# Altium footprint library Display_7Segment.PcbLib: 53 footprints (part 2 of 4)
Each footprint in its own frame and in the unit in brackets; x right, y up, seen from the top. Pads: shape width x height; smd on the part's side, far side on the other; paste and mask are expansions set on the pad; w line width, h text height; cw(c..) or ccw(c..) is an arc to the next point about the centre after c.
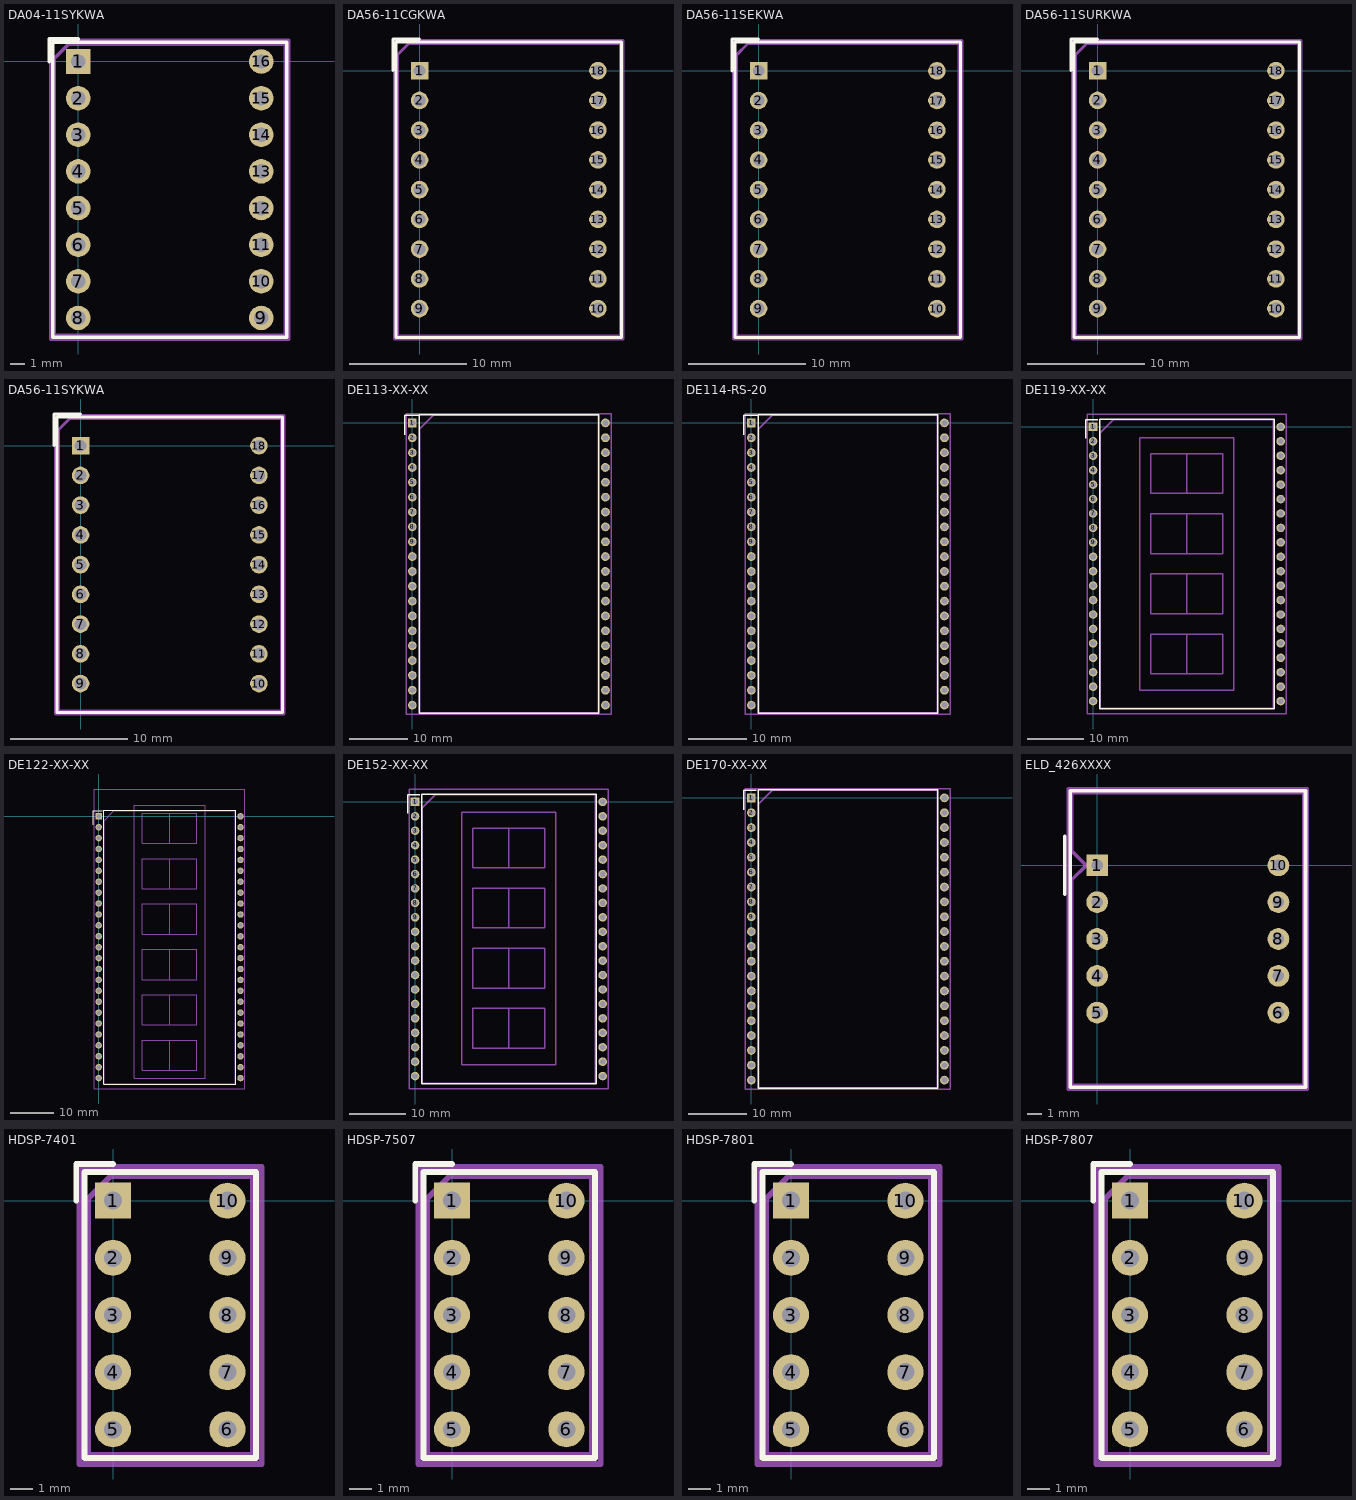
[diagram p1: the footprints below, top view; thin cyan lines are the x and y axes]

## DA04-11SYKWA [mm]
pads (16):
  rect 1.7x1.7 hole 1: 1(0,0)
  round 1.7 hole 1: 2(0,-2.54) 3(0,-5.08) 4(0,-7.62) 5(0,-10.16) 6(0,-12.7) 7(0,-15.24) 8(0,-17.78) 9(12.7,-17.78) 10(12.7,-15.24) 11(12.7,-12.7) 12(12.7,-10.16) 13(12.7,-7.62) 14(12.7,-5.08) 15(12.7,-2.54) 16(12.7,0)
F.SilkS:
  lines w0.254: -2,0 -2,1.56 0,1.56 ; -1.77,-19.11 14.47,-19.11 14.47,1.33 -1.77,1.33 -1.77,-19.11
Top Assembly:
  lines w0.254: -1.65,-18.99 14.35,-18.99 14.35,1.21 -0.65,1.21 -1.65,0.21 -1.65,-18.99
  text "'.Designator'" at 2.953,-9.84 h1
Top Courtyard:
  lines w0.254: -1.9,-19.24 14.6,-19.24 14.6,1.46 -1.9,1.46 -1.9,-19.24
Top Designator:
  text ".Designator" at -1.318,-9.348 h1.52

## DA56-11CGKWA [mm]
pads (18):
  rect 1.5x1.5 hole 1: 1(0,0)
  round 1.5 hole 1: 2(0,-2.54) 3(0,-5.08) 4(0,-7.62) 5(0,-10.16) 6(0,-12.7) 7(0,-15.24) 8(0,-17.78) 9(0,-20.32) 10(15.24,-20.32) 11(15.24,-17.78) 12(15.24,-15.24) 13(15.24,-12.7) 14(15.24,-10.16) 15(15.24,-7.62) 16(15.24,-5.08) 17(15.24,-2.54) 18(15.24,0)
F.SilkS:
  lines w0.254: -2.28,0 -2.28,2.71 0,2.71 ; -2.025,-22.79 17.265,-22.79 17.265,2.46 -2.025,2.46 -2.025,-22.79
Top Assembly:
  lines w0.254: -1.905,-22.66 17.145,-22.66 17.145,2.34 -0.905,2.34 -1.905,1.34 -1.905,-22.66
  text "'.Designator'" at 3.953,-10.84 h1
Top Courtyard:
  lines w0.254: -2.16,-22.92 17.39,-22.92 17.39,2.59 -2.16,2.59 -2.16,-22.92
Top Designator:
  text ".Designator" at -0.063,-10.613 h1.52

## DA56-11SEKWA [mm]
pads (18):
  rect 1.5x1.5 hole 1: 1(0,0)
  round 1.5 hole 1: 2(0,-2.54) 3(0,-5.08) 4(0,-7.62) 5(0,-10.16) 6(0,-12.7) 7(0,-15.24) 8(0,-17.78) 9(0,-20.32) 10(15.24,-20.32) 11(15.24,-17.78) 12(15.24,-15.24) 13(15.24,-12.7) 14(15.24,-10.16) 15(15.24,-7.62) 16(15.24,-5.08) 17(15.24,-2.54) 18(15.24,0)
F.SilkS:
  lines w0.254: -2.28,0 -2.28,2.71 ; -2.28,2.72 0,2.72 ; -2.025,-22.79 17.265,-22.79 17.265,2.46 -2.025,2.46 -2.025,-22.79
Top Assembly:
  lines w0.254: -1.905,-22.66 17.145,-22.66 17.145,2.34 -0.905,2.34 -1.905,1.34 -1.905,-22.66
  text "'.Designator'" at 3.953,-10.84 h1
Top Courtyard:
  lines w0.254: -2.16,-22.92 17.39,-22.92 17.39,2.59 -2.16,2.59 -2.16,-22.92
Top Designator:
  text ".Designator" at -0.063,-10.608 h1.52

## DA56-11SURKWA [mm]
pads (18):
  rect 1.5x1.5 hole 1: 1(0,0)
  round 1.5 hole 1: 2(0,-2.54) 3(0,-5.08) 4(0,-7.62) 5(0,-10.16) 6(0,-12.7) 7(0,-15.24) 8(0,-17.78) 9(0,-20.32) 10(15.24,-20.32) 11(15.24,-17.78) 12(15.24,-15.24) 13(15.24,-12.7) 14(15.24,-10.16) 15(15.24,-7.62) 16(15.24,-5.08) 17(15.24,-2.54) 18(15.24,0)
F.SilkS:
  lines w0.254: -2.28,0 -2.28,2.71 0,2.71 ; -2.025,-22.79 17.265,-22.79 17.265,2.46 -2.025,2.46 -2.025,-22.79
Top Assembly:
  lines w0.254: -1.905,-22.66 17.145,-22.66 17.145,2.34 -0.905,2.34 -1.905,1.34 -1.905,-22.66
  text "'.Designator'" at 3.953,-10.84 h1
Top Courtyard:
  lines w0.254: -2.16,-22.92 17.39,-22.92 17.39,2.59 -2.16,2.59 -2.16,-22.92
Top Designator:
  text ".Designator" at -0.063,-10.613 h1.52

## DA56-11SYKWA [mm]
pads (18):
  rect 1.5x1.5 hole 1: 1(0,0)
  round 1.5 hole 1: 2(0,-2.54) 3(0,-5.08) 4(0,-7.62) 5(0,-10.16) 6(0,-12.7) 7(0,-15.24) 8(0,-17.78) 9(0,-20.32) 10(15.24,-20.32) 11(15.24,-17.78) 12(15.24,-15.24) 13(15.24,-12.7) 14(15.24,-10.16) 15(15.24,-7.62) 16(15.24,-5.08) 17(15.24,-2.54) 18(15.24,0)
F.SilkS:
  lines w0.254: -2.28,0 -2.28,2.71 0,2.71 ; -2.025,-22.79 17.265,-22.79 17.265,2.46 -2.025,2.46 -2.025,-22.79
Top Assembly:
  lines w0.254: -1.905,-22.66 17.145,-22.66 17.145,2.34 -0.905,2.34 -1.905,1.34 -1.905,-22.66
  text "'.Designator'" at 3.953,-10.84 h1
Top Courtyard:
  lines w0.254: -2.16,-22.92 17.39,-22.92 17.39,2.59 -2.16,2.59 -2.16,-22.92
Top Designator:
  text ".Designator" at -0.063,-10.613 h1.52

## DE113-XX-XX [mm]
pads (40):
  rect 1.5x1.524 hole 1: 1(0,0)
  round 1.5 hole 1: 2(0,-2.54) 3(0,-5.08) 4(0,-7.62) 5(0,-10.16) 6(0,-12.7) 7(0,-15.24) 8(0,-17.78) 9(0,-20.32) 10(0,-22.86) 11(0,-25.4) 12(0,-27.94) 13(0,-30.48) 14(0,-33.02) 15(0,-35.56) 16(0,-38.1) 17(0,-40.64) 18(0,-43.18) 19(0,-45.72) 20(0,-48.26) 21(33.02,-48.26) 22(33.02,-45.72) 23(33.02,-43.18) 24(33.02,-40.64) 25(33.02,-38.1) 26(33.02,-35.56) 27(33.02,-33.02) 28(33.02,-30.48) 29(33.02,-27.94) 30(33.02,-25.4) 31(33.02,-22.86) 32(33.02,-20.32) 33(33.02,-17.78) 34(33.02,-15.24) 35(33.02,-12.7) 36(33.02,-10.16) 37(33.02,-7.62) 38(33.02,-5.08) 39(33.02,-2.54) 40(33.02,0)
F.SilkS:
  lines w0.254: -1.3,-2 -1.3,1.3 1,1.3 ; 1.15,-49.65 31.87,-49.65 31.87,1.39 1.15,1.39 1.15,-49.65
Top Assembly:
  lines w0.254: 1.27,-49.53 31.75,-49.53 31.75,1.27 3.54,1.27 1.27,-1 1.27,-49.53
  text "'.Designator'" at 11.673,-24.75 h1
Top Courtyard:
  lines w0.254: -1,-49.78 34.02,-49.78 34.02,1.52 -1,1.52 -1,-49.78
Top Designator:
  text ".Designator" at 8.742,-24.638 h1.52

## DE114-RS-20 [mm]
pads (40):
  rect 1.5x1.524 hole 1: 1(0,0)
  round 1.5 hole 1: 2(0,-2.54) 3(0,-5.08) 4(0,-7.62) 5(0,-10.16) 6(0,-12.7) 7(0,-15.24) 8(0,-17.78) 9(0,-20.32) 10(0,-22.86) 11(0,-25.4) 12(0,-27.94) 13(0,-30.48) 14(0,-33.02) 15(0,-35.56) 16(0,-38.1) 17(0,-40.64) 18(0,-43.18) 19(0,-45.72) 20(0,-48.26) 21(33.02,-48.26) 22(33.02,-45.72) 23(33.02,-43.18) 24(33.02,-40.64) 25(33.02,-38.1) 26(33.02,-35.56) 27(33.02,-33.02) 28(33.02,-30.48) 29(33.02,-27.94) 30(33.02,-25.4) 31(33.02,-22.86) 32(33.02,-20.32) 33(33.02,-17.78) 34(33.02,-15.24) 35(33.02,-12.7) 36(33.02,-10.16) 37(33.02,-7.62) 38(33.02,-5.08) 39(33.02,-2.54) 40(33.02,0)
F.SilkS:
  lines w0.254: -1.3,-2 -1.3,1.3 1,1.3 ; 1.15,-49.65 31.87,-49.65 31.87,1.39 1.15,1.39 1.15,-49.65
Top Assembly:
  lines w0.254: 1.27,-49.53 31.75,-49.53 31.75,1.27 3.54,1.27 1.27,-1 1.27,-49.53
  text "'.Designator'" at 12.433,-25.41 h1
Top Courtyard:
  lines w0.254: -1,-49.78 34.02,-49.78 34.02,1.52 -1,1.52 -1,-49.78
Top Designator:
  text ".Designator" at 8.742,-24.638 h1.52

## DE119-XX-XX [mm]
pads (40):
  rect 1.524x1.5 hole 1: 1(0,0)
  round 1.5 hole 1: 2(0,-2.54) 3(0,-5.08) 4(0,-7.62) 5(0,-10.16) 6(0,-12.7) 7(0,-15.24) 8(0,-17.78) 9(0,-20.32) 10(0,-22.86) 11(0,-25.4) 12(0,-27.94) 13(0,-30.48) 14(0,-33.02) 15(0,-35.56) 16(0,-38.1) 17(0,-40.64) 18(0,-43.18) 19(0,-45.72) 20(0,-48.26) 21(33.02,-48.26) 22(33.02,-45.72) 23(33.02,-43.18) 24(33.02,-40.64) 25(33.02,-38.1) 26(33.02,-35.56) 27(33.02,-33.02) 28(33.02,-30.48) 29(33.02,-27.94) 30(33.02,-25.4) 31(33.02,-22.86) 32(33.02,-20.32) 33(33.02,-17.78) 34(33.02,-15.24) 35(33.02,-12.7) 36(33.02,-10.16) 37(33.02,-7.62) 38(33.02,-5.08) 39(33.02,-2.54) 40(33.02,0)
F.SilkS:
  lines w0.254: -1.3,-2 -1.3,1.3 0.8,1.3 ; 1.15,-49.65 31.87,-49.65 31.87,1.39 1.15,1.39 1.15,-49.65
Top Assembly:
  lines w0.254: 1.27,-49.53 31.75,-49.53 31.75,1.27 3.54,1.27 1.27,-1 1.27,-49.53
  text "'.Designator'" at 12.717,-25.344 h1
Top Courtyard:
  lines w0.254: -1,-50.53 34.02,-50.53 34.02,2.27 -1,2.27 -1,-50.53
Top Designator:
  text ".Designator" at 8.742,-24.638 h1.52
Cmts.User:
  lines w0.254: 16.51,-43.46 16.51,-36.46 ; 16.51,-32.878 16.51,-25.878 ; 16.51,-22.297 16.51,-15.297 ; 16.51,-11.715 16.51,-4.715 ; 8.255,-46.36 24.765,-46.36 24.765,-1.91 8.255,-1.91 8.255,-46.36 ; 10.16,-43.46 22.86,-43.46 22.86,-36.46 10.16,-36.46 10.16,-43.46 ; 10.16,-32.878 22.86,-32.878 22.86,-25.878 10.16,-25.878 10.16,-32.878 ; 10.16,-22.297 22.86,-22.297 22.86,-15.297 10.16,-15.297 10.16,-22.297 ; 10.16,-11.715 22.86,-11.715 22.86,-4.715 10.16,-4.715 10.16,-11.715

## DE122-XX-XX [mm]
pads (50):
  rect 1.524x1.5 hole 1: 1(0,0)
  round 1.5 hole 1: 2(0,-2.54) 3(0,-5.08) 4(0,-7.62) 5(0,-10.16) 6(0,-12.7) 7(0,-15.24) 8(0,-17.78) 9(0,-20.32) 10(0,-22.86) 11(0,-25.4) 12(0,-27.94) 13(0,-30.48) 14(0,-33.02) 15(0,-35.56) 16(0,-38.1) 17(0,-40.64) 18(0,-43.18) 19(0,-45.72) 20(0,-48.26) 21(0,-50.8) 22(0,-53.34) 23(0,-55.88) 24(0,-58.42) 25(0,-60.96) 26(33.02,-60.96) 27(33.02,-58.42) 28(33.02,-55.88) 29(33.02,-53.34) 30(33.02,-50.8) 31(33.02,-48.26) 32(33.02,-45.72) 33(33.02,-43.18) 34(33.02,-40.64) 35(33.02,-38.1) 36(33.02,-35.56) 37(33.02,-33.02) 38(33.02,-30.48) 39(33.02,-27.94) 40(33.02,-25.4) 41(33.02,-22.86) 42(33.02,-20.32) 43(33.02,-17.78) 44(33.02,-15.24) 45(33.02,-12.7) 46(33.02,-10.16) 47(33.02,-7.62) 48(33.02,-5.08) 49(33.02,-2.54) 50(33.02,0)
F.SilkS:
  lines w0.254: -1.3,-2 -1.3,1.3 0.8,1.3 ; 1.15,-62.35 31.87,-62.35 31.87,1.39 1.15,1.39 1.15,-62.35
Top Assembly:
  lines w0.254: 1.27,-62.23 31.75,-62.23 31.75,1.27 3.54,1.27 1.27,-1 1.27,-62.23
  text "'.Designator'" at 12.463,-31.32 h1
Top Courtyard:
  lines w0.254: -1,-63.5 34.02,-63.5 34.02,6.35 -1,6.35 -1,-63.5
Top Designator:
  text ".Designator" at 8.742,-29.083 h1.52
Cmts.User:
  lines w0.254: 16.51,-59.169 16.51,-52.169 ; 16.51,-48.587 16.51,-41.587 ; 16.51,-38.006 16.51,-31.006 ; 16.51,-27.424 16.51,-20.424 ; 16.51,-16.843 16.51,-9.843 ; 16.51,-6.261 16.51,0.739 ; 8.255,-60.96 24.765,-60.96 24.765,2.53 8.255,2.53 8.255,-60.96 ; 10.16,-59.169 22.86,-59.169 22.86,-52.169 10.16,-52.169 10.16,-59.169 ; 10.16,-48.587 22.86,-48.587 22.86,-41.587 10.16,-41.587 10.16,-48.587 ; 10.16,-38.006 22.86,-38.006 22.86,-31.006 10.16,-31.006 10.16,-38.006 ; 10.16,-27.424 22.86,-27.424 22.86,-20.424 10.16,-20.424 10.16,-27.424 ; 10.16,-16.843 22.86,-16.843 22.86,-9.843 10.16,-9.843 10.16,-16.843 ; 10.16,-6.261 22.86,-6.261 22.86,0.739 10.16,0.739 10.16,-6.261

## DE152-XX-XX [mm]
pads (40):
  rect 1.524x1.5 hole 1: 1(0,0)
  round 1.5 hole 1: 2(0,-2.54) 3(0,-5.08) 4(0,-7.62) 5(0,-10.16) 6(0,-12.7) 7(0,-15.24) 8(0,-17.78) 9(0,-20.32) 10(0,-22.86) 11(0,-25.4) 12(0,-27.94) 13(0,-30.48) 14(0,-33.02) 15(0,-35.56) 16(0,-38.1) 17(0,-40.64) 18(0,-43.18) 19(0,-45.72) 20(0,-48.26) 21(33.02,-48.26) 22(33.02,-45.72) 23(33.02,-43.18) 24(33.02,-40.64) 25(33.02,-38.1) 26(33.02,-35.56) 27(33.02,-33.02) 28(33.02,-30.48) 29(33.02,-27.94) 30(33.02,-25.4) 31(33.02,-22.86) 32(33.02,-20.32) 33(33.02,-17.78) 34(33.02,-15.24) 35(33.02,-12.7) 36(33.02,-10.16) 37(33.02,-7.62) 38(33.02,-5.08) 39(33.02,-2.54) 40(33.02,0)
F.SilkS:
  lines w0.254: -1.3,-2 -1.3,1.3 0.8,1.3 ; 1.15,-49.65 31.87,-49.65 31.87,1.39 1.15,1.39 1.15,-49.65
Top Assembly:
  lines w0.254: 1.27,-49.53 31.75,-49.53 31.75,1.27 3.54,1.27 1.27,-1 1.27,-49.53
  text "'.Designator'" at 12.717,-25.224 h1
Top Courtyard:
  lines w0.254: -1,-50.53 34.02,-50.53 34.02,2.27 -1,2.27 -1,-50.53
Top Designator:
  text ".Designator" at 8.742,-24.638 h1.52
Cmts.User:
  lines w0.254: 16.51,-43.34 16.51,-36.34 ; 16.51,-32.758 16.51,-25.758 ; 16.51,-22.177 16.51,-15.177 ; 16.51,-11.595 16.51,-4.595 ; 8.26,-46.29 24.78,-46.29 24.78,-1.79 8.26,-1.79 8.26,-46.29 ; 10.16,-43.34 22.86,-43.34 22.86,-36.34 10.16,-36.34 10.16,-43.34 ; 10.16,-32.758 22.86,-32.758 22.86,-25.758 10.16,-25.758 10.16,-32.758 ; 10.16,-22.177 22.86,-22.177 22.86,-15.177 10.16,-15.177 10.16,-22.177 ; 10.16,-11.595 22.86,-11.595 22.86,-4.595 10.16,-4.595 10.16,-11.595

## DE170-XX-XX [mm]
pads (40):
  rect 1.5x1.524 hole 1: 1(0,0)
  round 1.5 hole 1: 2(0,-2.54) 3(0,-5.08) 4(0,-7.62) 5(0,-10.16) 6(0,-12.7) 7(0,-15.24) 8(0,-17.78) 9(0,-20.32) 10(0,-22.86) 11(0,-25.4) 12(0,-27.94) 13(0,-30.48) 14(0,-33.02) 15(0,-35.56) 16(0,-38.1) 17(0,-40.64) 18(0,-43.18) 19(0,-45.72) 20(0,-48.26) 21(33.02,-48.26) 22(33.02,-45.72) 23(33.02,-43.18) 24(33.02,-40.64) 25(33.02,-38.1) 26(33.02,-35.56) 27(33.02,-33.02) 28(33.02,-30.48) 29(33.02,-27.94) 30(33.02,-25.4) 31(33.02,-22.86) 32(33.02,-20.32) 33(33.02,-17.78) 34(33.02,-15.24) 35(33.02,-12.7) 36(33.02,-10.16) 37(33.02,-7.62) 38(33.02,-5.08) 39(33.02,-2.54) 40(33.02,0)
F.SilkS:
  lines w0.254: -1.3,-2 -1.3,1.3 0.8,1.3 ; 1.15,-49.65 31.87,-49.65 31.87,1.39 1.15,1.39 1.15,-49.65
Top Assembly:
  lines w0.254: 1.27,-49.53 31.75,-49.53 31.75,1.27 3.54,1.27 1.27,-1 1.27,-49.53
  text "'.Designator'" at 12.223,-25.09 h1
Top Courtyard:
  lines w0.254: -1,-49.78 34.02,-49.78 34.02,1.52 -1,1.52 -1,-49.78
Top Designator:
  text ".Designator" at 8.742,-24.638 h1.52

## ELD_426XXXX [mm]
pads (10):
  rect 1.5x1.5 hole 0.8: 1(0,0)
  round 1.5 hole 0.8: 2(0,-2.54) 3(0,-5.08) 4(0,-7.62) 5(0,-10.16) 6(12.5,-10.16) 7(12.5,-7.62) 8(12.5,-5.08) 9(12.5,-2.54) 10(12.5,0)
F.SilkS:
  lines w0.254: -2.25,-2 -2.25,2 ; -1.87,-15.3 14.37,-15.3 14.37,5.14 -1.87,5.14 -1.87,-15.3
Top Assembly:
  lines w0.254: -1.75,-15.18 14.25,-15.18 14.25,5.02 -1.75,5.02 -1.75,1 -0.75,0 -1.75,-1 -1.75,-15.18
  text "'.Designator'" at 2.953,-5.84 h1
Top Courtyard:
  lines w0.254: -2,-15.43 14.5,-15.43 14.5,5.27 -2,5.27 -2,-15.43
Top Designator:
  text ".Designator" at -1.493,-5.588 h1.52

## HDSP-7401 [mm]
pads (10):
  rect 1.6x1.6 hole 0.8: 1(0,0)
  round 1.6 hole 0.8: 2(0,-2.54) 3(0,-5.08) 4(0,-7.62) 5(0,-10.16) 6(5.08,-10.16) 7(5.08,-7.62) 8(5.08,-5.08) 9(5.08,-2.54) 10(5.08,0)
F.SilkS:
  lines w0.254: -1.63,0 -1.63,1.63 0,1.63 ; -1.27,-11.43 6.35,-11.43 6.35,1.27 -1.27,1.27 -1.27,-11.43
Top Assembly:
  lines w0.254: -1.1,-11.3 6.2,-11.3 6.2,1.1 -0.1,1.1 -1.1,0.1 -1.1,-11.3
  text "'.Designator'" at -1.474,-5.92 h1
Top Courtyard:
  lines w0.254: -1.5,-11.7 6.6,-11.7 6.6,1.5 -1.5,1.5 -1.5,-11.7
Top Designator:
  text ".Designator" at -5.133,-5.543 h1.52

## HDSP-7507 [mm]
pads (10):
  rect 1.6x1.6 hole 0.8: 1(0,0)
  round 1.6 hole 0.8: 2(0,-2.54) 3(0,-5.08) 4(0,-7.62) 5(0,-10.16) 6(5.08,-10.16) 7(5.08,-7.62) 8(5.08,-5.08) 9(5.08,-2.54) 10(5.08,0)
F.SilkS:
  lines w0.254: -1.63,0 -1.63,1.63 0,1.63 ; -1.27,-11.43 6.35,-11.43 6.35,1.27 -1.27,1.27 -1.27,-11.43
Top Assembly:
  lines w0.254: -1.1,-11.3 6.2,-11.3 6.2,1.1 -0.1,1.1 -1.1,0.1 -1.1,-11.3
  text "'.Designator'" at -1.474,-5.92 h1
Top Courtyard:
  lines w0.254: -1.5,-11.7 6.6,-11.7 6.6,1.5 -1.5,1.5 -1.5,-11.7
Top Designator:
  text ".Designator" at -5.133,-5.543 h1.52

## HDSP-7801 [mm]
pads (10):
  rect 1.6x1.6 hole 0.8: 1(0,0)
  round 1.6 hole 0.8: 2(0,-2.54) 3(0,-5.08) 4(0,-7.62) 5(0,-10.16) 6(5.08,-10.16) 7(5.08,-7.62) 8(5.08,-5.08) 9(5.08,-2.54) 10(5.08,0)
F.SilkS:
  lines w0.254: -1.63,0 -1.63,1.63 0,1.63 ; -1.27,-11.43 6.35,-11.43 6.35,1.27 -1.27,1.27 -1.27,-11.43
Top Assembly:
  lines w0.254: -1.1,-11.3 6.2,-11.3 6.2,1.1 -0.1,1.1 -1.1,0.1 -1.1,-11.3
  text "'.Designator'" at -1.474,-5.92 h1
Top Courtyard:
  lines w0.254: -1.5,-11.7 6.6,-11.7 6.6,1.5 -1.5,1.5 -1.5,-11.7
Top Designator:
  text ".Designator" at -5.133,-5.543 h1.52

## HDSP-7807 [mm]
pads (10):
  rect 1.6x1.6 hole 0.8: 1(0,0)
  round 1.6 hole 0.8: 2(0,-2.54) 3(0,-5.08) 4(0,-7.62) 5(0,-10.16) 6(5.08,-10.16) 7(5.08,-7.62) 8(5.08,-5.08) 9(5.08,-2.54) 10(5.08,0)
F.SilkS:
  lines w0.254: -1.63,0 -1.63,1.63 0,1.63 ; -1.27,-11.43 6.35,-11.43 6.35,1.27 -1.27,1.27 -1.27,-11.43
Top Assembly:
  lines w0.254: -1.1,-11.3 6.2,-11.3 6.2,1.1 -0.1,1.1 -1.1,0.1 -1.1,-11.3
  text "'.Designator'" at -1.474,-5.92 h1
Top Courtyard:
  lines w0.254: -1.5,-11.7 6.6,-11.7 6.6,1.5 -1.5,1.5 -1.5,-11.7
Top Designator:
  text ".Designator" at -5.133,-5.543 h1.52